# EAGLE library part LV51131T (library _mtvl.power)
2-Cell Lithium-Ion Secondary Battery Protection IC https://www.onsemi.com/pub/Collateral/LV51131T-D.PDF
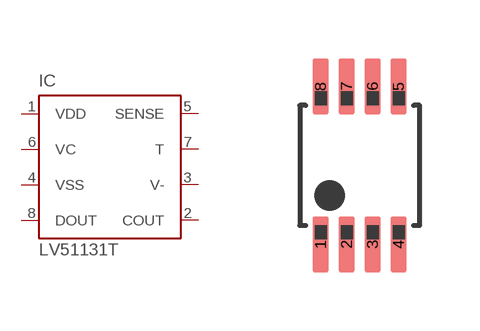
[diagram p17: symbol with the pads of MSOP8_1; footprint MSOP8_1]

Designator prefix IC

## LV51131T  [MSOP8_1]
1  VDD
2  COUT
3  V-
4  VSS
5  SENSE
6  VC
7  T
8  DOUT

## Footprint MSOP8_1 (pad centres in mm)
https://www.diodes.com/assets/Package-Files/MSOP-8.pdf
smd 0.406 x 1.397: 1 -0.975,-1.975; 2 -0.325,-1.975; 3 0.325,-1.975; 4 0.975,-1.975; 5 0.975,1.975; 6 0.325,1.975; 7 -0.325,1.975; 8 -0.975,1.975